# EAGLE library part AL2-2PT-ADP (library e-sps)
AL2 2PT ADP 2x PT100 Sensor, 0 bis 10V. MITSUBISHI Alpha_Installationsanweisung.pdf
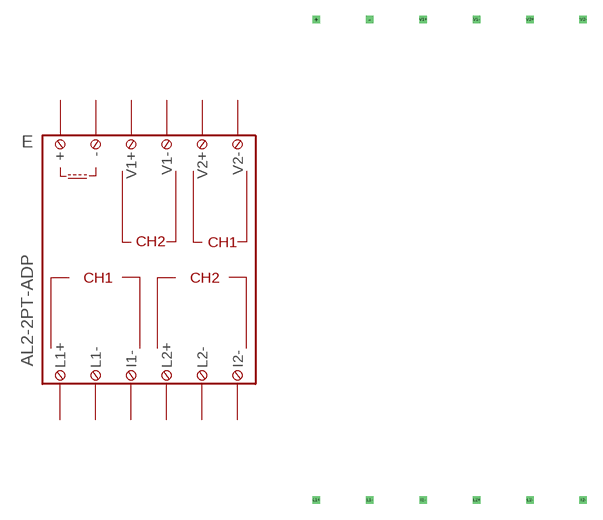
[diagram p14: symbol with the pads of AL2-2PT-ADP; footprint AL2-2PT-ADP]

Designator prefix E

## AL2-2PT-ADP  [AL2-2PT-ADP]
+  +  pas
-  -  pas
I1-  I1-  pas
I2-  I2-  pas
L1+  L1+  pas
L1-  L1-  pas
L2+  L2+  pas
L2-  L2-  pas
V1+  V1+  pas
V1-  V1-  pas
V2+  V2+  pas
V2-  V2-  pas

## Footprint AL2-2PT-ADP (pad centres in mm)
AL2 2PT ADP
drill 0.2 pad 0.6 square: + -12.7,22.86; - -7.62,22.86; I1- -2.54,-22.86; I2- 12.7,-22.86; L1+ -12.7,-22.86; L1- -7.62,-22.86; L2+ 2.54,-22.86; L2- 7.62,-22.86; V1+ -2.54,22.86; V1- 2.54,22.86; V2+ 7.62,22.86; V2- 12.7,22.86